# Altium integrated library ON Semi Silicon Controlled Rectifiers (SCRs).IntLib: 163 symbols (part 3 of 4)
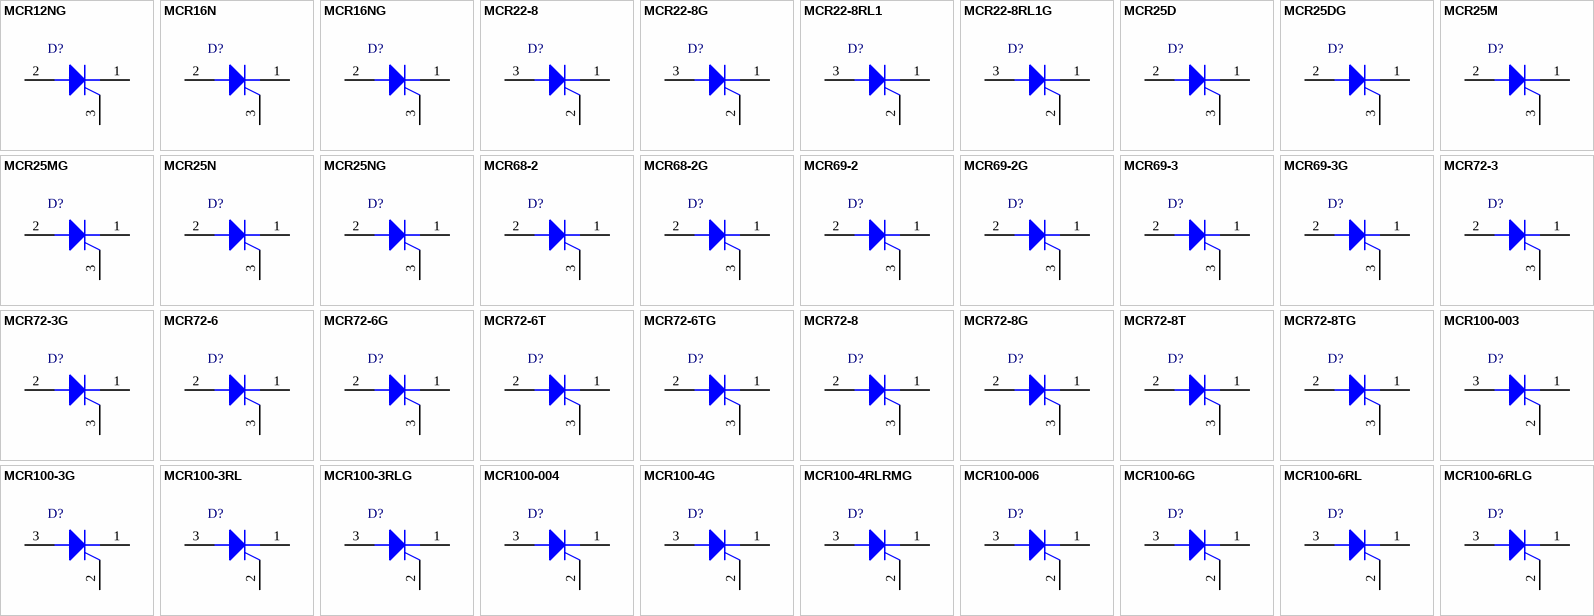
[diagram p6: symbols MCR12NG to MCR100-6RLG]

## MCR25NG
designator D?
Silicon Controlled Rectifier, Reverse Blocking Thyristor, 30 mA, 1 V, 3-Pin TO-220, Pb-Free, Tube; Manufacturer: On Semiconductor; PartNumber: MCR25NG; IGT Max (mA): 30; IT(RMS) Max (A): 25; ITSM Max (A): 300; VGT Max (V): 1; DatasheetVersion: Rev. 5; PackageVersion: Rev. AA; PackageReference: TO-220-3-221A-09_AA; PackageDescription: 3-Pin Flange Mount, Vertical Straight Lead, Body 9.97 x 4.445 mm, Pitch 2.54 mm; Supplier 1: Digi-Key; Supplier Part Number 1: MCR25NGOS-ND; Supplier 2: Newark; Supplier Part Number 2: 26K3705; Supplier 3: Mouser; Supplier Part Number 3: 863-MCR25NG; Packing: Tube; RoHS: Pb-Free; Mounting Technology: Through Hole; ComponentLink1Description: Manufacturer URL; ComponentLink1URL: http://www.onsemi.com/; ComponentLink2Description: Datasheet; ComponentLink2URL: http://www.onsemi.cn/pub_link/Collateral/MCR25-D.PDF; ComponentLink3Description: Package Specification; ComponentLink3URL: http://www.onsemi.com/pub_link/Collateral/MAC16C-D.PDF
footprint ONSC-TO-220-3-221A-09_AA (FM, 3-Leads, Body 10.3x4.85mm, Pitch 2.54mm)
pins: 1 K, 2 A, 3 G

## MCR68-2
designator D?
Silicon Controlled Rectifier, Reverse Blocking Thyristor, 30 mA, 1.5 V, 3-Pin TO-220, Bulk Box; Manufacturer: On Semiconductor; PartNumber: MCR68-2; IGT Max (mA): 30; IT(RMS) Max (A): 12; ITSM Max (A): 100; VGT Max (V): 1.5; DatasheetVersion: Rev. 2; PackageVersion: Rev. O, 07/2008; PackageReference: TO-220-3-221A-07; PackageDescription: 3-Pin Flange Mount, Vertical Straight Lead, Body 9.97 x 4.445 mm, Pitch 2.54 mm; Packing: Bulk Box; Mounting Technology: Through Hole; ComponentLink1Description: Manufacturer URL; ComponentLink1URL: http://www.onsemi.com/; ComponentLink2Description: Datasheet; ComponentLink2URL: http://www.onsemi.cn/pub_link/Collateral/MCR68-D.PDF; ComponentLink3Description: Package Specification; ComponentLink3URL: http://www.onsemi.com/pub_link/Collateral/221A-07.PDF
footprint ONSC-TO-220-3-221A-07 (FM, 3-Leads, Body 10.3x4.85mm, Pitch 2.54mm)
pins: 1 K, 2 A, 3 G

## MCR68-2G
designator D?
Silicon Controlled Rectifier, Reverse Blocking Thyristor, 30 mA, 1.5 V, 3-Pin TO-220, Pb-Free, Bulk Box; Manufacturer: On Semiconductor; PartNumber: MCR68-2G; IGT Max (mA): 30; IT(RMS) Max (A): 12; ITSM Max (A): 100; VGT Max (V): 1.5; DatasheetVersion: Rev. 2; PackageVersion: Rev. O, 07/2008; PackageReference: TO-220-3-221A-07; PackageDescription: 3-Pin Flange Mount, Vertical Straight Lead, Body 9.97 x 4.445 mm, Pitch 2.54 mm; Supplier 1: Digi-Key; Supplier Part Number 1: MCR68-2GOS-ND; Supplier 2: Farnell; Supplier Part Number 2: 1364974; Supplier 3: Newark; Supplier Part Number 3: 71J5364; Supplier 4: Mouser; Supplier Part Number 4: 863-MCR68-2G; Packing: Bulk Box; RoHS: Pb-Free; Mounting Technology: Through Hole; ComponentLink1Description: Manufacturer URL; ComponentLink1URL: http://www.onsemi.com/; ComponentLink2Description: Datasheet; ComponentLink2URL: http://www.onsemi.cn/pub_link/Collateral/MCR68-D.PDF; ComponentLink3Description: Package Specification; ComponentLink3URL: http://www.onsemi.com/pub_link/Collateral/221A-07.PDF
footprint ONSC-TO-220-3-221A-07 (FM, 3-Leads, Body 10.3x4.85mm, Pitch 2.54mm)
pins: 1 K, 2 A, 3 G

## MCR69-2
designator D?
Silicon Controlled Rectifier, Reverse Blocking Thyristor, 30 mA, 1.5 V, 3-Pin TO-220, Bulk Box; Manufacturer: On Semiconductor; PartNumber: MCR69-2; IGT Max (mA): 30; IT(RMS) Max (A): 25; ITSM Max (A): 300; VGT Max (V): 1.5; DatasheetVersion: Rev. 1; PackageVersion: Rev. O, 07/2008; PackageReference: TO-220-3-221A-07; PackageDescription: 3-Pin Flange Mount, Vertical Straight Lead, Body 9.97 x 4.445 mm, Pitch 2.54 mm; Packing: Bulk Box; Mounting Technology: Through Hole; ComponentLink1Description: Manufacturer URL; ComponentLink1URL: http://www.onsemi.com/; ComponentLink2Description: Datasheet; ComponentLink2URL: http://www.onsemi.cn/pub_link/Collateral/MCR69-D.PDF; ComponentLink3Description: Package Specification; ComponentLink3URL: http://www.onsemi.com/pub_link/Collateral/221A-07.PDF
footprint ONSC-TO-220-3-221A-07 (FM, 3-Leads, Body 10.3x4.85mm, Pitch 2.54mm)
pins: 1 K, 2 A, 3 G

## MCR69-2G
designator D?
Silicon Controlled Rectifier, Reverse Blocking Thyristor, 30 mA, 1.5 V, 3-Pin TO-220, Pb-Free, Bulk Box; Manufacturer: On Semiconductor; PartNumber: MCR69-2G; IGT Max (mA): 30; IT(RMS) Max (A): 25; ITSM Max (A): 300; VGT Max (V): 1.5; DatasheetVersion: Rev. 1; PackageVersion: Rev. O, 07/2008; PackageReference: TO-220-3-221A-07; PackageDescription: 3-Pin Flange Mount, Vertical Straight Lead, Body 9.97 x 4.445 mm, Pitch 2.54 mm; Supplier 1: Digi-Key; Supplier Part Number 1: MCR69-2GOS-ND; Supplier 2: Farnell; Supplier Part Number 2: 1150391; Supplier 3: Newark; Supplier Part Number 3: 45J0825; Supplier 4: Mouser; Supplier Part Number 4: 863-MCR69-2G; Packing: Bulk Box; RoHS: Pb-Free; Mounting Technology: Through Hole; ComponentLink1Description: Manufacturer URL; ComponentLink1URL: http://www.onsemi.com/; ComponentLink2Description: Datasheet; ComponentLink2URL: http://www.onsemi.cn/pub_link/Collateral/MCR69-D.PDF; ComponentLink3Description: Package Specification; ComponentLink3URL: http://www.onsemi.com/pub_link/Collateral/221A-07.PDF
footprint ONSC-TO-220-3-221A-07 (FM, 3-Leads, Body 10.3x4.85mm, Pitch 2.54mm)
pins: 1 K, 2 A, 3 G

## MCR69-3
designator D?
Silicon Controlled Rectifier, Reverse Blocking Thyristor, 30 mA, 1.5 V, 3-Pin TO-220, Bulk Box; Manufacturer: On Semiconductor; PartNumber: MCR69-3; IGT Max (mA): 30; IT(RMS) Max (A): 25; ITSM Max (A): 300; VGT Max (V): 1.5; DatasheetVersion: Rev. 1; PackageVersion: Rev. O, 07/2008; PackageReference: TO-220-3-221A-07; PackageDescription: 3-Pin Flange Mount, Vertical Straight Lead, Body 9.97 x 4.445 mm, Pitch 2.54 mm; Packing: Bulk Box; Mounting Technology: Through Hole; ComponentLink1Description: Manufacturer URL; ComponentLink1URL: http://www.onsemi.com/; ComponentLink2Description: Datasheet; ComponentLink2URL: http://www.onsemi.cn/pub_link/Collateral/MCR69-D.PDF; ComponentLink3Description: Package Specification; ComponentLink3URL: http://www.onsemi.com/pub_link/Collateral/221A-07.PDF
footprint ONSC-TO-220-3-221A-07 (FM, 3-Leads, Body 10.3x4.85mm, Pitch 2.54mm)
pins: 1 K, 2 A, 3 G

## MCR69-3G
designator D?
Silicon Controlled Rectifier, Reverse Blocking Thyristor, 30 mA, 1.5 V, 3-Pin TO-220, Pb-Free, Bulk Box; Manufacturer: On Semiconductor; PartNumber: MCR69-3G; IGT Max (mA): 30; IT(RMS) Max (A): 25; ITSM Max (A): 300; VGT Max (V): 1.5; DatasheetVersion: Rev. 1; PackageVersion: Rev. O, 07/2008; PackageReference: TO-220-3-221A-07; PackageDescription: 3-Pin Flange Mount, Vertical Straight Lead, Body 9.97 x 4.445 mm, Pitch 2.54 mm; Supplier 1: Digi-Key; Supplier Part Number 1: MCR69-3GOS-ND; Supplier 2: Farnell; Supplier Part Number 2: 1459082; Supplier 3: Newark; Supplier Part Number 3: 45J0826; Supplier 4: Mouser; Supplier Part Number 4: 863-MCR69-3G; Packing: Bulk Box; RoHS: Pb-Free; Mounting Technology: Through Hole; ComponentLink1Description: Manufacturer URL; ComponentLink1URL: http://www.onsemi.com/; ComponentLink2Description: Datasheet; ComponentLink2URL: http://www.onsemi.cn/pub_link/Collateral/MCR69-D.PDF; ComponentLink3Description: Package Specification; ComponentLink3URL: http://www.onsemi.com/pub_link/Collateral/221A-07.PDF
footprint ONSC-TO-220-3-221A-07 (FM, 3-Leads, Body 10.3x4.85mm, Pitch 2.54mm)
pins: 1 K, 2 A, 3 G

## MCR72-3
designator D?
Sensitive Gate Silicon Controlled Rectifier, Reverse Blocking Thyristor, 0.2 mA, 1.5 V, 3-Pin TO-220, Bulk Box; Manufacturer: On Semiconductor; PartNumber: MCR72-3; IGT Max (mA): 0.2; IT(RMS) Max (A): 8; ITSM Max (A): 100; VGT Max (V): 1.5; DatasheetVersion: Rev. 4; PackageVersion: Rev. O, 07/2008; PackageReference: TO-220-3-221A-07; PackageDescription: 3-Pin Flange Mount, Vertical Straight Lead, Body 9.97 x 4.445 mm, Pitch 2.54 mm; Packing: Bulk Box; Mounting Technology: Through Hole; ComponentLink1Description: Manufacturer URL; ComponentLink1URL: http://www.onsemi.com/; ComponentLink2Description: Datasheet; ComponentLink2URL: http://www.onsemi.cn/pub_link/Collateral/MCR72-D.PDF; ComponentLink3Description: Package Specification; ComponentLink3URL: http://www.onsemi.com/pub_link/Collateral/221A-07.PDF
footprint ONSC-TO-220-3-221A-07 (FM, 3-Leads, Body 10.3x4.85mm, Pitch 2.54mm)
pins: 1 K, 2 A, 3 G

## MCR72-3G
designator D?
Sensitive Gate Silicon Controlled Rectifier, Reverse Blocking Thyristor, 0.2 mA, 1.5 V, 3-Pin TO-220, Pb-Free, Bulk Box; Manufacturer: On Semiconductor; PartNumber: MCR72-3G; IGT Max (mA): 0.2; IT(RMS) Max (A): 8; ITSM Max (A): 100; VGT Max (V): 1.5; DatasheetVersion: Rev. 4; PackageVersion: Rev. O, 07/2008; PackageReference: TO-220-3-221A-07; PackageDescription: 3-Pin Flange Mount, Vertical Straight Lead, Body 9.97 x 4.445 mm, Pitch 2.54 mm; Supplier 1: Digi-Key; Supplier Part Number 1: MCR72-3GOS-ND; Supplier 2: Farnell; Supplier Part Number 2: 1147853; Supplier 3: Newark; Supplier Part Number 3: 71J5366; Supplier 4: Mouser; Supplier Part Number 4: 863-MCR72-3G; Packing: Bulk Box; RoHS: Pb-Free; Mounting Technology: Through Hole; ComponentLink1Description: Manufacturer URL; ComponentLink1URL: http://www.onsemi.com/; ComponentLink2Description: Datasheet; ComponentLink2URL: http://www.onsemi.cn/pub_link/Collateral/MCR72-D.PDF; ComponentLink3Description: Package Specification; ComponentLink3URL: http://www.onsemi.com/pub_link/Collateral/221A-07.PDF
footprint ONSC-TO-220-3-221A-07 (FM, 3-Leads, Body 10.3x4.85mm, Pitch 2.54mm)
pins: 1 K, 2 A, 3 G

## MCR72-6
designator D?
Sensitive Gate Silicon Controlled Rectifier, Reverse Blocking Thyristor, 0.2 mA, 1.5 V, 3-Pin TO-220, Bulk Box; Manufacturer: On Semiconductor; PartNumber: MCR72-6; IGT Max (mA): 0.2; IT(RMS) Max (A): 8; ITSM Max (A): 100; VGT Max (V): 1.5; DatasheetVersion: Rev. 4; PackageVersion: Rev. O, 07/2008; PackageReference: TO-220-3-221A-07; PackageDescription: 3-Pin Flange Mount, Vertical Straight Lead, Body 9.97 x 4.445 mm, Pitch 2.54 mm; Packing: Bulk Box; Mounting Technology: Through Hole; ComponentLink1Description: Manufacturer URL; ComponentLink1URL: http://www.onsemi.com/; ComponentLink2Description: Datasheet; ComponentLink2URL: http://www.onsemi.cn/pub_link/Collateral/MCR72-D.PDF; ComponentLink3Description: Package Specification; ComponentLink3URL: http://www.onsemi.com/pub_link/Collateral/221A-07.PDF
footprint ONSC-TO-220-3-221A-07 (FM, 3-Leads, Body 10.3x4.85mm, Pitch 2.54mm)
pins: 1 K, 2 A, 3 G

## MCR72-6G
designator D?
Sensitive Gate Silicon Controlled Rectifier, Reverse Blocking Thyristor, 0.2 mA, 1.5 V, 3-Pin TO-220, Pb-Free, Bulk Box; Manufacturer: On Semiconductor; PartNumber: MCR72-6G; IGT Max (mA): 0.2; IT(RMS) Max (A): 8; ITSM Max (A): 100; VGT Max (V): 1.5; DatasheetVersion: Rev. 4; PackageVersion: Rev. O, 07/2008; PackageReference: TO-220-3-221A-07; PackageDescription: 3-Pin Flange Mount, Vertical Straight Lead, Body 9.97 x 4.445 mm, Pitch 2.54 mm; Supplier 1: Digi-Key; Supplier Part Number 1: MCR72-6GOS-ND; Supplier 2: Farnell; Supplier Part Number 2: 1136351; Supplier 3: Newark; Supplier Part Number 3: 83H7285; Supplier 4: Mouser; Supplier Part Number 4: 863-MCR72-6G; Packing: Bulk Box; RoHS: Pb-Free; Mounting Technology: Through Hole; ComponentLink1Description: Manufacturer URL; ComponentLink1URL: http://www.onsemi.com/; ComponentLink2Description: Datasheet; ComponentLink2URL: http://www.onsemi.cn/pub_link/Collateral/MCR72-D.PDF; ComponentLink3Description: Package Specification; ComponentLink3URL: http://www.onsemi.com/pub_link/Collateral/221A-07.PDF
footprint ONSC-TO-220-3-221A-07 (FM, 3-Leads, Body 10.3x4.85mm, Pitch 2.54mm)
pins: 1 K, 2 A, 3 G

## MCR72-6T
designator D?
Sensitive Gate Silicon Controlled Rectifier, Reverse Blocking Thyristor, 0.2 mA, 1.5 V, 3-Pin TO-220, Tube; Manufacturer: On Semiconductor; PartNumber: MCR72-6T; IGT Max (mA): 0.2; IT(RMS) Max (A): 8; ITSM Max (A): 100; VGT Max (V): 1.5; DatasheetVersion: Rev. 4; PackageVersion: Rev. O, 07/2008; PackageReference: TO-220-3-221A-07; PackageDescription: 3-Pin Flange Mount, Vertical Straight Lead, Body 9.97 x 4.445 mm, Pitch 2.54 mm; Supplier 1: Digi-Key; Supplier Part Number 1: MCR72-6T-ND; Packing: Tube; Mounting Technology: Through Hole; ComponentLink1Description: Manufacturer URL; ComponentLink1URL: http://www.onsemi.com/; ComponentLink2Description: Datasheet; ComponentLink2URL: http://www.onsemi.cn/pub_link/Collateral/MCR72-D.PDF; ComponentLink3Description: Package Specification; ComponentLink3URL: http://www.onsemi.com/pub_link/Collateral/221A-07.PDF
footprint ONSC-TO-220-3-221A-07 (FM, 3-Leads, Body 10.3x4.85mm, Pitch 2.54mm)
pins: 1 K, 2 A, 3 G

## MCR72-6TG
designator D?
Sensitive Gate Silicon Controlled Rectifier, Reverse Blocking Thyristor, 0.2 mA, 1.5 V, 3-Pin TO-220, Pb-Free, Tube; Manufacturer: On Semiconductor; PartNumber: MCR72-6TG; IGT Max (mA): 0.2; IT(RMS) Max (A): 8; ITSM Max (A): 100; VGT Max (V): 1.5; DatasheetVersion: Rev. 4; PackageVersion: Rev. AF; PackageReference: TO-220-3-221A-09_AF; PackageDescription: 3-Pin Flange Mount, Vertical Straight Lead, Body 9.97 x 4.445 mm, Pitch 2.54 mm; Supplier 1: Digi-Key; Supplier Part Number 1: MCR72-6TGOS-ND; Supplier 2: Farnell; Supplier Part Number 2: 1706027; Supplier 3: Newark; Supplier Part Number 3: 83H7286; Supplier 4: Mouser; Supplier Part Number 4: 863-MCR72-6TG; Packing: Tube; RoHS: Pb-Free; Mounting Technology: Through Hole; ComponentLink1Description: Manufacturer URL; ComponentLink1URL: http://www.onsemi.com/; ComponentLink2Description: Datasheet; ComponentLink2URL: http://www.onsemi.cn/pub_link/Collateral/MCR72-D.PDF; ComponentLink3Description: Package Specification; ComponentLink3URL: http://www.onsemi.cn/pub_link/Collateral/MCR8S-D.PDF
footprint ONSC-TO-220-3-221A-09_AF (FM, 3-Leads, Body 10.3x4.85mm, Pitch 2.54mm)
pins: 1 K, 2 A, 3 G

## MCR72-8
designator D?
Sensitive Gate Silicon Controlled Rectifier, Reverse Blocking Thyristor, 0.2 mA, 1.5 V, 3-Pin TO-220, Bulk Box; Manufacturer: On Semiconductor; PartNumber: MCR72-8; IGT Max (mA): 0.2; IT(RMS) Max (A): 8; ITSM Max (A): 100; VGT Max (V): 1.5; DatasheetVersion: Rev. 4; PackageVersion: Rev. O, 07/2008; PackageReference: TO-220-3-221A-07; PackageDescription: 3-Pin Flange Mount, Vertical Straight Lead, Body 9.97 x 4.445 mm, Pitch 2.54 mm; Packing: Bulk Box; Mounting Technology: Through Hole; ComponentLink1Description: Manufacturer URL; ComponentLink1URL: http://www.onsemi.com/; ComponentLink2Description: Datasheet; ComponentLink2URL: http://www.onsemi.cn/pub_link/Collateral/MCR72-D.PDF; ComponentLink3Description: Package Specification; ComponentLink3URL: http://www.onsemi.com/pub_link/Collateral/221A-07.PDF
footprint ONSC-TO-220-3-221A-07 (FM, 3-Leads, Body 10.3x4.85mm, Pitch 2.54mm)
pins: 1 K, 2 A, 3 G

## MCR72-8G
designator D?
Sensitive Gate Silicon Controlled Rectifier, Reverse Blocking Thyristor, 0.2 mA, 1.5 V, 3-Pin TO-220, Pb-Free, Bulk Box; Manufacturer: On Semiconductor; PartNumber: MCR72-8G; IGT Max (mA): 0.2; IT(RMS) Max (A): 8; ITSM Max (A): 100; VGT Max (V): 1.5; DatasheetVersion: Rev. 4; PackageVersion: Rev. O, 07/2008; PackageReference: TO-220-3-221A-07; PackageDescription: 3-Pin Flange Mount, Vertical Straight Lead, Body 9.97 x 4.445 mm, Pitch 2.54 mm; Supplier 1: Digi-Key; Supplier Part Number 1: MCR72-8GOS-ND; Supplier 2: Farnell; Supplier Part Number 2: 1364975; Supplier 3: Newark; Supplier Part Number 3: 71J5367; Supplier 4: Mouser; Supplier Part Number 4: 863-MCR72-8G; Packing: Bulk Box; RoHS: Pb-Free; Mounting Technology: Through Hole; ComponentLink1Description: Manufacturer URL; ComponentLink1URL: http://www.onsemi.com/; ComponentLink2Description: Datasheet; ComponentLink2URL: http://www.onsemi.cn/pub_link/Collateral/MCR72-D.PDF; ComponentLink3Description: Package Specification; ComponentLink3URL: http://www.onsemi.com/pub_link/Collateral/221A-07.PDF
footprint ONSC-TO-220-3-221A-07 (FM, 3-Leads, Body 10.3x4.85mm, Pitch 2.54mm)
pins: 1 K, 2 A, 3 G

## MCR72-8T
designator D?
Sensitive Gate Silicon Controlled Rectifier, Reverse Blocking Thyristor, 0.2 mA, 1.5 V, 3-Pin TO-220, Tube; Manufacturer: On Semiconductor; PartNumber: MCR72-8T; IGT Max (mA): 0.2; IT(RMS) Max (A): 8; ITSM Max (A): 100; VGT Max (V): 1.5; DatasheetVersion: Rev. 4; PackageVersion: Rev. O, 07/2008; PackageReference: TO-220-3-221A-07; PackageDescription: 3-Pin Flange Mount, Vertical Straight Lead, Body 9.97 x 4.445 mm, Pitch 2.54 mm; Packing: Tube; Mounting Technology: Through Hole; ComponentLink1Description: Manufacturer URL; ComponentLink1URL: http://www.onsemi.com/; ComponentLink2Description: Datasheet; ComponentLink2URL: http://www.onsemi.cn/pub_link/Collateral/MCR72-D.PDF; ComponentLink3Description: Package Specification; ComponentLink3URL: http://www.onsemi.com/pub_link/Collateral/221A-07.PDF
footprint ONSC-TO-220-3-221A-07 (FM, 3-Leads, Body 10.3x4.85mm, Pitch 2.54mm)
pins: 1 K, 2 A, 3 G

## MCR72-8TG
designator D?
Sensitive Gate Silicon Controlled Rectifier, Reverse Blocking Thyristor, 0.2 mA, 1.5 V, 3-Pin TO-220, Pb-Free, Tube; Manufacturer: On Semiconductor; PartNumber: MCR72-8TG; IGT Max (mA): 0.2; IT(RMS) Max (A): 8; ITSM Max (A): 100; VGT Max (V): 1.5; DatasheetVersion: Rev. 4; PackageVersion: Rev. O, 07/2008; PackageReference: TO-220-3-221A-07; PackageDescription: 3-Pin Flange Mount, Vertical Straight Lead, Body 9.97 x 4.445 mm, Pitch 2.54 mm; Supplier 1: Digi-Key; Supplier Part Number 1: MCR72-8TGOS-ND; Supplier 2: Farnell; Supplier Part Number 2: 1705796; Supplier 3: Newark; Supplier Part Number 3: 26K3708; Supplier 4: Mouser; Supplier Part Number 4: 863-MCR72-8TG; Packing: Tube; RoHS: Pb-Free; Mounting Technology: Through Hole; ComponentLink1Description: Manufacturer URL; ComponentLink1URL: http://www.onsemi.com/; ComponentLink2Description: Datasheet; ComponentLink2URL: http://www.onsemi.cn/pub_link/Collateral/MCR72-D.PDF; ComponentLink3Description: Package Specification; ComponentLink3URL: http://www.onsemi.com/pub_link/Collateral/221A-07.PDF
footprint ONSC-TO-220-3-221A-07 (FM, 3-Leads, Body 10.3x4.85mm, Pitch 2.54mm)
pins: 1 K, 2 A, 3 G

## MCR100-003
designator D?
Sensitive Gate Silicon Controlled Rectifier, Reverse Blocking Thyristor, 0.2 mA, 3-Pin TO-92, Bulk Box; Manufacturer: On Semiconductor; PartNumber: MCR100-003; IGT Max (mA): 0.2; IT(RMS) Max (A): 0.8; ITSM Max (A): 10; DatasheetVersion: Rev. 10; PackageVersion: Rev. AM; PackageReference: TO-92-3-29-11_AM_SL; PackageDescription: 3-Pin Transistor Outline, Body 4.825 x 3.685 mm, Pitch 1.27 mm; Supplier 1: Digi-Key; Supplier Part Number 1: MCR100-003-ND; Supplier 2: Mouser; Supplier Part Number 2: 863-MCR100-003; Packing: Bulk Box; Mounting Technology: Through Hole; ComponentLink1Description: Manufacturer URL; ComponentLink1URL: http://www.onsemi.com/; ComponentLink2Description: Datasheet; ComponentLink2URL: http://www.onsemi.cn/pub_link/Collateral/MCR100-D.PDF; ComponentLink3Description: Package Specification; ComponentLink3URL: http://www.onsemi.cn/pub_link/Collateral/2N6426-D.PDF
footprint ONSC-TO-92-3-29-11 (TO, 3-Leads, Body Dia 4.7mm, Pitch 1.27mm)
pins: 1 K, 2 G, 3 A

## MCR100-3G
designator D?
Sensitive Gate Silicon Controlled Rectifier, Reverse Blocking Thyristor, 0.2 mA, 3-Pin TO-92, Pb-Free, Bulk Box; Manufacturer: On Semiconductor; PartNumber: MCR100-3G; IGT Max (mA): 0.2; IT(RMS) Max (A): 0.8; ITSM Max (A): 10; DatasheetVersion: Rev. 10; PackageVersion: Rev. AM; PackageReference: TO-92-3-29-11_AM_SL; PackageDescription: 3-Pin Transistor Outline, Body 4.825 x 3.685 mm, Pitch 1.27 mm; Supplier 1: Digi-Key; Supplier Part Number 1: MCR100-3GOS-ND; Supplier 2: Farnell; Supplier Part Number 2: 1364043; Supplier 3: Newark; Supplier Part Number 3: 26K3692; Supplier 4: Mouser; Supplier Part Number 4: 863-MCR100-3G; Packing: Bulk Box; RoHS: Pb-Free; Mounting Technology: Through Hole; ComponentLink1Description: Manufacturer URL; ComponentLink1URL: http://www.onsemi.com/; ComponentLink2Description: Datasheet; ComponentLink2URL: http://www.onsemi.cn/pub_link/Collateral/MCR100-D.PDF; ComponentLink3Description: Package Specification; ComponentLink3URL: http://www.onsemi.cn/pub_link/Collateral/2N6426-D.PDF
footprint ONSC-TO-92-3-29-11 (TO, 3-Leads, Body Dia 4.7mm, Pitch 1.27mm)
pins: 1 K, 2 G, 3 A

## MCR100-3RL
designator D?
Sensitive Gate Silicon Controlled Rectifier, Reverse Blocking Thyristor, 0.2 mA, 3-Pin TO-92, Tape and Reel; Manufacturer: On Semiconductor; PartNumber: MCR100-3RL; IGT Max (mA): 0.2; IT(RMS) Max (A): 0.8; ITSM Max (A): 10; DatasheetVersion: Rev. 10; PackageVersion: Rev. AM; PackageReference: TO-92-3-29-11_AM_SL; PackageDescription: 3-Pin Transistor Outline, Body 4.825 x 3.685 mm, Pitch 1.27 mm; Supplier 1: Digi-Key; Supplier Part Number 1: MCR100-3RL-ND; Packing: Tape and Reel; Mounting Technology: Through Hole; ComponentLink1Description: Manufacturer URL; ComponentLink1URL: http://www.onsemi.com/; ComponentLink2Description: Datasheet; ComponentLink2URL: http://www.onsemi.cn/pub_link/Collateral/MCR100-D.PDF; ComponentLink3Description: Package Specification; ComponentLink3URL: http://www.onsemi.cn/pub_link/Collateral/2N6426-D.PDF
footprint ONSC-TO-92-3-29-11 (TO, 3-Leads, Body Dia 4.7mm, Pitch 1.27mm)
pins: 1 K, 2 G, 3 A

## MCR100-3RLG
designator D?
Sensitive Gate Silicon Controlled Rectifier, Reverse Blocking Thyristor, 0.2 mA, 3-Pin TO-92, Pb-Free, Tape and Reel; Manufacturer: On Semiconductor; PartNumber: MCR100-3RLG; IGT Max (mA): 0.2; IT(RMS) Max (A): 0.8; ITSM Max (A): 10; DatasheetVersion: Rev. 10; PackageVersion: Rev. AM; PackageReference: TO-92-3-29-11_AM_SL; PackageDescription: 3-Pin Transistor Outline, Body 4.825 x 3.685 mm, Pitch 1.27 mm; Supplier 1: Digi-Key; Supplier Part Number 1: MCR100-3RLGOSTR-ND; Supplier 2: Digi-Key; Supplier Part Number 2: MCR100-3RLGOSCT-ND; Supplier 3: Newark; Supplier Part Number 3: 85W2288; Supplier 4: Newark; Supplier Part Number 4: 98H0608; Supplier 5: Mouser; Supplier Part Number 5: 863-MCR100-3RLG; Packing: Tape and Reel; RoHS: Pb-Free; Mounting Technology: Through Hole; ComponentLink1Description: Manufacturer URL; ComponentLink1URL: http://www.onsemi.com/; ComponentLink2Description: Datasheet; ComponentLink2URL: http://www.onsemi.cn/pub_link/Collateral/MCR100-D.PDF; ComponentLink3Description: Package Specification; ComponentLink3URL: http://www.onsemi.cn/pub_link/Collateral/2N6426-D.PDF
footprint ONSC-TO-92-3-29-11 (TO, 3-Leads, Body Dia 4.7mm, Pitch 1.27mm)
pins: 1 K, 2 G, 3 A

## MCR100-004
designator D?
Sensitive Gate Silicon Controlled Rectifier, Reverse Blocking Thyristor, 0.2 mA, 3-Pin TO-92, Bulk Box; Manufacturer: On Semiconductor; PartNumber: MCR100-004; IGT Max (mA): 0.2; IT(RMS) Max (A): 0.8; ITSM Max (A): 10; DatasheetVersion: Rev. 10; PackageVersion: Rev. AM; PackageReference: TO-92-3-29-11_AM_SL; PackageDescription: 3-Pin Transistor Outline, Body 4.825 x 3.685 mm, Pitch 1.27 mm; Supplier 1: Digi-Key; Supplier Part Number 1: MCR100-004-ND; Supplier 2: Mouser; Supplier Part Number 2: 863-MCR100-004; Packing: Bulk Box; Mounting Technology: Through Hole; ComponentLink1Description: Manufacturer URL; ComponentLink1URL: http://www.onsemi.com/; ComponentLink2Description: Datasheet; ComponentLink2URL: http://www.onsemi.cn/pub_link/Collateral/MCR100-D.PDF; ComponentLink3Description: Package Specification; ComponentLink3URL: http://www.onsemi.cn/pub_link/Collateral/2N6426-D.PDF
footprint ONSC-TO-92-3-29-11 (TO, 3-Leads, Body Dia 4.7mm, Pitch 1.27mm)
pins: 1 K, 2 G, 3 A

## MCR100-4G
designator D?
Sensitive Gate Silicon Controlled Rectifier, Reverse Blocking Thyristor, 0.2 mA, 3-Pin TO-92, Pb-Free, Bulk Box; Manufacturer: On Semiconductor; PartNumber: MCR100-4G; IGT Max (mA): 0.2; IT(RMS) Max (A): 0.8; ITSM Max (A): 10; DatasheetVersion: Rev. 10; PackageVersion: Rev. AM; PackageReference: TO-92-3-29-11_AM_SL; PackageDescription: 3-Pin Transistor Outline, Body 4.825 x 3.685 mm, Pitch 1.27 mm; Supplier 1: Digi-Key; Supplier Part Number 1: MCR100-4GOS-ND; Supplier 2: Farnell; Supplier Part Number 2: 1364537; Supplier 3: Newark; Supplier Part Number 3: 42K0024; Supplier 4: Mouser; Supplier Part Number 4: 863-MCR100-4G; Packing: Bulk Box; RoHS: Pb-Free; Mounting Technology: Through Hole; ComponentLink1Description: Manufacturer URL; ComponentLink1URL: http://www.onsemi.com/; ComponentLink2Description: Datasheet; ComponentLink2URL: http://www.onsemi.cn/pub_link/Collateral/MCR100-D.PDF; ComponentLink3Description: Package Specification; ComponentLink3URL: http://www.onsemi.cn/pub_link/Collateral/2N6426-D.PDF
footprint ONSC-TO-92-3-29-11 (TO, 3-Leads, Body Dia 4.7mm, Pitch 1.27mm)
pins: 1 K, 2 G, 3 A

## MCR100-4RLRMG
designator D?
Sensitive Gate Silicon Controlled Rectifier, Reverse Blocking Thyristor, 0.2 mA, 3-Pin TO-92, Pb-Free, Fan-Fold; Manufacturer: On Semiconductor; PartNumber: MCR100-4RLRMG; IGT Max (mA): 0.2; IT(RMS) Max (A): 0.8; ITSM Max (A): 10; DatasheetVersion: Rev. 10; PackageVersion: Rev. AM; PackageReference: TO-92-3-29-11_AM_SL; PackageDescription: 3-Pin Transistor Outline, Body 4.825 x 3.685 mm, Pitch 1.27 mm; Supplier 1: Digi-Key; Supplier Part Number 1: MCR100-4RLRMG-ND; Supplier 2: Newark; Supplier Part Number 2: 50M2087; Supplier 3: Mouser; Supplier Part Number 3: 863-MCR100-4RLRMG; Packing: Fan-Fold; RoHS: Pb-Free; Mounting Technology: Through Hole; ComponentLink1Description: Manufacturer URL; ComponentLink1URL: http://www.onsemi.com/; ComponentLink2Description: Datasheet; ComponentLink2URL: http://www.onsemi.cn/pub_link/Collateral/MCR100-D.PDF; ComponentLink3Description: Package Specification; ComponentLink3URL: http://www.onsemi.cn/pub_link/Collateral/2N6426-D.PDF
footprint ONSC-TO-92-3-29-11 (TO, 3-Leads, Body Dia 4.7mm, Pitch 1.27mm)
pins: 1 K, 2 G, 3 A

## MCR100-006
designator D?
Sensitive Gate Silicon Controlled Rectifier, Reverse Blocking Thyristor, 0.2 mA, 3-Pin TO-92, Bulk Box; Manufacturer: On Semiconductor; PartNumber: MCR100-006; IGT Max (mA): 0.2; IT(RMS) Max (A): 0.8; ITSM Max (A): 10; DatasheetVersion: Rev. 10; PackageVersion: Rev. AM; PackageReference: TO-92-3-29-11_AM_SL; PackageDescription: 3-Pin Transistor Outline, Body 4.825 x 3.685 mm, Pitch 1.27 mm; Supplier 1: Mouser; Supplier Part Number 1: 863-MCR100-006; Packing: Bulk Box; Mounting Technology: Through Hole; ComponentLink1Description: Manufacturer URL; ComponentLink1URL: http://www.onsemi.com/; ComponentLink2Description: Datasheet; ComponentLink2URL: http://www.onsemi.cn/pub_link/Collateral/MCR100-D.PDF; ComponentLink3Description: Package Specification; ComponentLink3URL: http://www.onsemi.cn/pub_link/Collateral/2N6426-D.PDF
footprint ONSC-TO-92-3-29-11 (TO, 3-Leads, Body Dia 4.7mm, Pitch 1.27mm)
pins: 1 K, 2 G, 3 A

## MCR100-6G
designator D?
Sensitive Gate Silicon Controlled Rectifier, Reverse Blocking Thyristor, 0.2 mA, 3-Pin TO-92, Pb-Free, Bulk Box; Manufacturer: On Semiconductor; PartNumber: MCR100-6G; IGT Max (mA): 0.2; IT(RMS) Max (A): 0.8; ITSM Max (A): 10; DatasheetVersion: Rev. 10; PackageVersion: Rev. AM; PackageReference: TO-92-3-29-11_AM_SL; PackageDescription: 3-Pin Transistor Outline, Body 4.825 x 3.685 mm, Pitch 1.27 mm; Supplier 1: Digi-Key; Supplier Part Number 1: MCR100-6GOS-ND; Supplier 2: Farnell; Supplier Part Number 2: 9557270; Supplier 3: Newark; Supplier Part Number 3: 45J0815; Supplier 4: Mouser; Supplier Part Number 4: 863-MCR100-6G; Packing: Bulk Box; RoHS: Pb-Free; Mounting Technology: Through Hole; ComponentLink1Description: Manufacturer URL; ComponentLink1URL: http://www.onsemi.com/; ComponentLink2Description: Datasheet; ComponentLink2URL: http://www.onsemi.cn/pub_link/Collateral/MCR100-D.PDF; ComponentLink3Description: Package Specification; ComponentLink3URL: http://www.onsemi.cn/pub_link/Collateral/2N6426-D.PDF
footprint ONSC-TO-92-3-29-11 (TO, 3-Leads, Body Dia 4.7mm, Pitch 1.27mm)
pins: 1 K, 2 G, 3 A

## MCR100-6RL
designator D?
Sensitive Gate Silicon Controlled Rectifier, Reverse Blocking Thyristor, 0.2 mA, 3-Pin TO-92, Tape and Reel; Manufacturer: On Semiconductor; PartNumber: MCR100-6RL; IGT Max (mA): 0.2; IT(RMS) Max (A): 0.8; ITSM Max (A): 10; DatasheetVersion: Rev. 10; PackageVersion: Rev. AM; PackageReference: TO-92-3-29-11_AM_SL; PackageDescription: 3-Pin Transistor Outline, Body 4.825 x 3.685 mm, Pitch 1.27 mm; Supplier 1: Digi-Key; Supplier Part Number 1: MCR100-6RLOSCT-ND; Packing: Tape and Reel; Mounting Technology: Through Hole; ComponentLink1Description: Manufacturer URL; ComponentLink1URL: http://www.onsemi.com/; ComponentLink2Description: Datasheet; ComponentLink2URL: http://www.onsemi.cn/pub_link/Collateral/MCR100-D.PDF; ComponentLink3Description: Package Specification; ComponentLink3URL: http://www.onsemi.cn/pub_link/Collateral/2N6426-D.PDF
footprint ONSC-TO-92-3-29-11 (TO, 3-Leads, Body Dia 4.7mm, Pitch 1.27mm)
pins: 1 K, 2 G, 3 A

## MCR100-6RLG
designator D?
Sensitive Gate Silicon Controlled Rectifier, Reverse Blocking Thyristor, 0.2 mA, 3-Pin TO-92, Pb-Free, Tape and Reel; Manufacturer: On Semiconductor; PartNumber: MCR100-6RLG; IGT Max (mA): 0.2; IT(RMS) Max (A): 0.8; ITSM Max (A): 10; DatasheetVersion: Rev. 10; PackageVersion: Rev. AM; PackageReference: TO-92-3-29-11_AM_SL; PackageDescription: 3-Pin Transistor Outline, Body 4.825 x 3.685 mm, Pitch 1.27 mm; Supplier 1: Digi-Key; Supplier Part Number 1: MCR100-6RLGOSTR-ND; Supplier 2: Digi-Key; Supplier Part Number 2: MCR100-6RLGOSCT-ND; Supplier 3: Newark; Supplier Part Number 3: 88H4691; Supplier 4: Mouser; Supplier Part Number 4: 863-MCR100-6RLG; Packing: Tape and Reel; RoHS: Pb-Free; Mounting Technology: Through Hole; ComponentLink1Description: Manufacturer URL; ComponentLink1URL: http://www.onsemi.com/; ComponentLink2Description: Datasheet; ComponentLink2URL: http://www.onsemi.cn/pub_link/Collateral/MCR100-D.PDF; ComponentLink3Description: Package Specification; ComponentLink3URL: http://www.onsemi.cn/pub_link/Collateral/2N6426-D.PDF
footprint ONSC-TO-92-3-29-11 (TO, 3-Leads, Body Dia 4.7mm, Pitch 1.27mm)
pins: 1 K, 2 G, 3 A

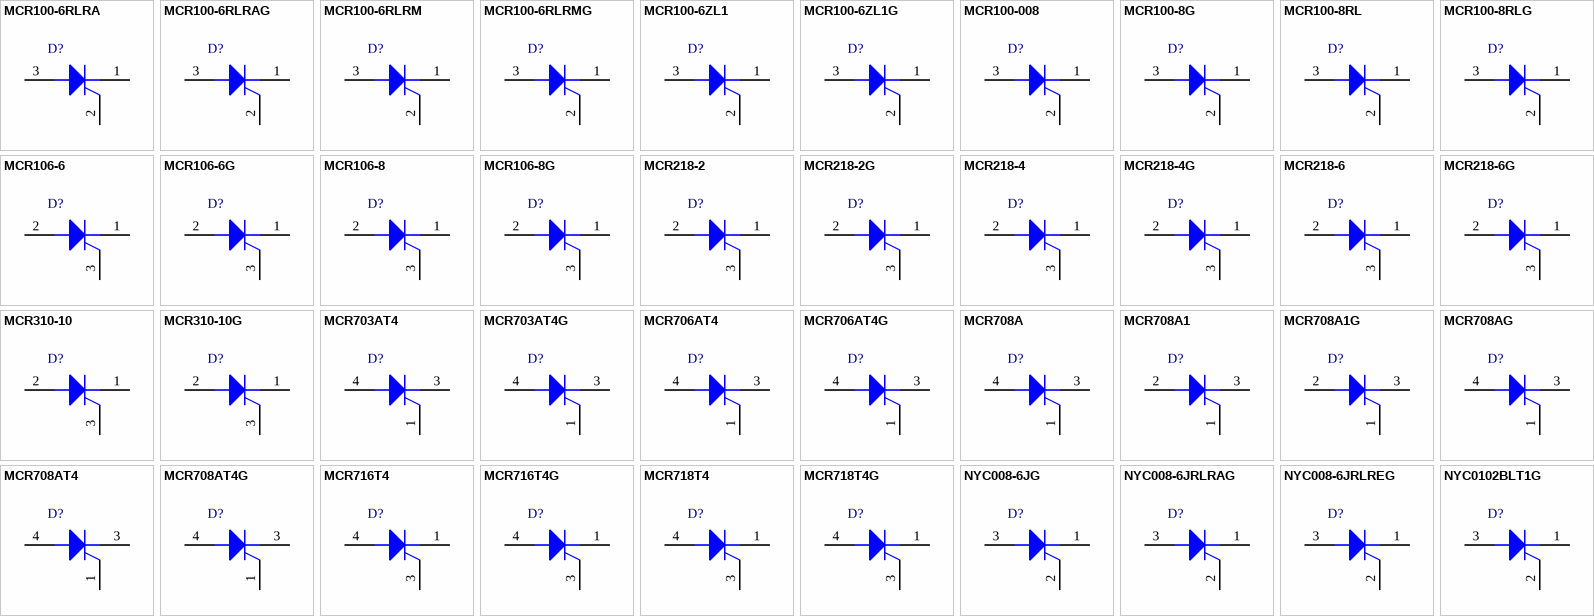
[diagram p3: symbols MCR100-6RLRA to NYC0102BLT1G]

## MCR100-6RLRA
designator D?
Sensitive Gate Silicon Controlled Rectifier, Reverse Blocking Thyristor, 0.2 mA, 3-Pin TO-92, Tape and Reel; Manufacturer: On Semiconductor; PartNumber: MCR100-6RLRA; IGT Max (mA): 0.2; IT(RMS) Max (A): 0.8; ITSM Max (A): 10; DatasheetVersion: Rev. 10; PackageVersion: Rev. AM; PackageReference: TO-92-3-29-11_AM_SL; PackageDescription: 3-Pin Transistor Outline, Body 4.825 x 3.685 mm, Pitch 1.27 mm; Supplier 1: Digi-Key; Supplier Part Number 1: MCR100-6RLRA-ND; Packing: Tape and Reel; Mounting Technology: Through Hole; ComponentLink1Description: Manufacturer URL; ComponentLink1URL: http://www.onsemi.com/; ComponentLink2Description: Datasheet; ComponentLink2URL: http://www.onsemi.cn/pub_link/Collateral/MCR100-D.PDF; ComponentLink3Description: Package Specification; ComponentLink3URL: http://www.onsemi.cn/pub_link/Collateral/2N6426-D.PDF
footprint ONSC-TO-92-3-29-11 (TO, 3-Leads, Body Dia 4.7mm, Pitch 1.27mm)
pins: 1 K, 2 G, 3 A

## MCR100-6RLRAG
designator D?
Sensitive Gate Silicon Controlled Rectifier, Reverse Blocking Thyristor, 0.2 mA, 3-Pin TO-92, Pb-Free, Tape and Reel; Manufacturer: On Semiconductor; PartNumber: MCR100-6RLRAG; IGT Max (mA): 0.2; IT(RMS) Max (A): 0.8; ITSM Max (A): 10; DatasheetVersion: Rev. 10; PackageVersion: Rev. AM; PackageReference: TO-92-3-29-11_AM_SL; PackageDescription: 3-Pin Transistor Outline, Body 4.825 x 3.685 mm, Pitch 1.27 mm; Supplier 1: Digi-Key; Supplier Part Number 1: MCR100-6RLRAGOSTR-ND; Supplier 2: Digi-Key; Supplier Part Number 2: MCR100-6RLRAGOSCT-ND; Supplier 3: Newark; Supplier Part Number 3: 45J0816; Supplier 4: Mouser; Supplier Part Number 4: 863-MCR100-6RLRAG; Packing: Tape and Reel; RoHS: Pb-Free; Mounting Technology: Through Hole; ComponentLink1Description: Manufacturer URL; ComponentLink1URL: http://www.onsemi.com/; ComponentLink2Description: Datasheet; ComponentLink2URL: http://www.onsemi.cn/pub_link/Collateral/MCR100-D.PDF; ComponentLink3Description: Package Specification; ComponentLink3URL: http://www.onsemi.cn/pub_link/Collateral/2N6426-D.PDF
footprint ONSC-TO-92-3-29-11 (TO, 3-Leads, Body Dia 4.7mm, Pitch 1.27mm)
pins: 1 K, 2 G, 3 A

## MCR100-6RLRM
designator D?
Sensitive Gate Silicon Controlled Rectifier, Reverse Blocking Thyristor, 0.2 mA, 3-Pin TO-92, Fan-Fold; Manufacturer: On Semiconductor; PartNumber: MCR100-6RLRM; IGT Max (mA): 0.2; IT(RMS) Max (A): 0.8; ITSM Max (A): 10; DatasheetVersion: Rev. 10; PackageVersion: Rev. AM; PackageReference: TO-92-3-29-11_AM_SL; PackageDescription: 3-Pin Transistor Outline, Body 4.825 x 3.685 mm, Pitch 1.27 mm; Packing: Fan-Fold; Mounting Technology: Through Hole; ComponentLink1Description: Manufacturer URL; ComponentLink1URL: http://www.onsemi.com/; ComponentLink2Description: Datasheet; ComponentLink2URL: http://www.onsemi.cn/pub_link/Collateral/MCR100-D.PDF; ComponentLink3Description: Package Specification; ComponentLink3URL: http://www.onsemi.cn/pub_link/Collateral/2N6426-D.PDF
footprint ONSC-TO-92-3-29-11 (TO, 3-Leads, Body Dia 4.7mm, Pitch 1.27mm)
pins: 1 K, 2 G, 3 A

## MCR100-6RLRMG
designator D?
Sensitive Gate Silicon Controlled Rectifier, Reverse Blocking Thyristor, 0.2 mA, 3-Pin TO-92, Pb-Free, Fan-Fold; Manufacturer: On Semiconductor; PartNumber: MCR100-6RLRMG; IGT Max (mA): 0.2; IT(RMS) Max (A): 0.8; ITSM Max (A): 10; DatasheetVersion: Rev. 10; PackageVersion: Rev. AM; PackageReference: TO-92-3-29-11_AM_SL; PackageDescription: 3-Pin Transistor Outline, Body 4.825 x 3.685 mm, Pitch 1.27 mm; Supplier 1: Digi-Key; Supplier Part Number 1: MCR100-6RLRMGOSTB-ND; Supplier 2: Digi-Key; Supplier Part Number 2: MCR100-6RLRMGOSCT-ND; Supplier 3: Newark; Supplier Part Number 3: 26K3693; Supplier 4: Mouser; Supplier Part Number 4: 863-MCR100-6RLRMG; Packing: Fan-Fold; RoHS: Pb-Free; Mounting Technology: Through Hole; ComponentLink1Description: Manufacturer URL; ComponentLink1URL: http://www.onsemi.com/; ComponentLink2Description: Datasheet; ComponentLink2URL: http://www.onsemi.cn/pub_link/Collateral/MCR100-D.PDF; ComponentLink3Description: Package Specification; ComponentLink3URL: http://www.onsemi.cn/pub_link/Collateral/2N6426-D.PDF
footprint ONSC-TO-92-3-29-11 (TO, 3-Leads, Body Dia 4.7mm, Pitch 1.27mm)
pins: 1 K, 2 G, 3 A

## MCR100-6ZL1
designator D?
Sensitive Gate Silicon Controlled Rectifier, Reverse Blocking Thyristor, 0.2 mA, 3-Pin TO-92, Fan-Fold; Manufacturer: On Semiconductor; PartNumber: MCR100-6ZL1; IGT Max (mA): 0.2; IT(RMS) Max (A): 0.8; ITSM Max (A): 10; DatasheetVersion: Rev. 10; PackageVersion: Rev. AM; PackageReference: TO-92-3-29-11_AM_SL; PackageDescription: 3-Pin Transistor Outline, Body 4.825 x 3.685 mm, Pitch 1.27 mm; Packing: Fan-Fold; Mounting Technology: Through Hole; ComponentLink1Description: Manufacturer URL; ComponentLink1URL: http://www.onsemi.com/; ComponentLink2Description: Datasheet; ComponentLink2URL: http://www.onsemi.cn/pub_link/Collateral/MCR100-D.PDF; ComponentLink3Description: Package Specification; ComponentLink3URL: http://www.onsemi.cn/pub_link/Collateral/2N6426-D.PDF
footprint ONSC-TO-92-3-29-11 (TO, 3-Leads, Body Dia 4.7mm, Pitch 1.27mm)
pins: 1 K, 2 G, 3 A

## MCR100-6ZL1G
designator D?
Sensitive Gate Silicon Controlled Rectifier, Reverse Blocking Thyristor, 0.2 mA, 3-Pin TO-92, Pb-Free, Fan-Fold; Manufacturer: On Semiconductor; PartNumber: MCR100-6ZL1G; IGT Max (mA): 0.2; IT(RMS) Max (A): 0.8; ITSM Max (A): 10; DatasheetVersion: Rev. 10; PackageVersion: Rev. AM; PackageReference: TO-92-3-29-11_AM_SL; PackageDescription: 3-Pin Transistor Outline, Body 4.825 x 3.685 mm, Pitch 1.27 mm; Supplier 1: Digi-Key; Supplier Part Number 1: MCR100-6ZL1GOSTB-ND; Supplier 2: Digi-Key; Supplier Part Number 2: MCR100-6ZL1GOSCT-ND; Supplier 3: Newark; Supplier Part Number 3: 85W2289; Supplier 4: Mouser; Supplier Part Number 4: 863-MCR100-6ZL1G; Packing: Fan-Fold; RoHS: Pb-Free; Mounting Technology: Through Hole; ComponentLink1Description: Manufacturer URL; ComponentLink1URL: http://www.onsemi.com/; ComponentLink2Description: Datasheet; ComponentLink2URL: http://www.onsemi.cn/pub_link/Collateral/MCR100-D.PDF; ComponentLink3Description: Package Specification; ComponentLink3URL: http://www.onsemi.cn/pub_link/Collateral/2N6426-D.PDF
footprint ONSC-TO-92-3-29-11 (TO, 3-Leads, Body Dia 4.7mm, Pitch 1.27mm)
pins: 1 K, 2 G, 3 A

## MCR100-008
designator D?
Sensitive Gate Silicon Controlled Rectifier, Reverse Blocking Thyristor, 0.2 mA, 3-Pin TO-92, Bulk Box; Manufacturer: On Semiconductor; PartNumber: MCR100-008; IGT Max (mA): 0.2; IT(RMS) Max (A): 0.8; ITSM Max (A): 10; DatasheetVersion: Rev. 10; PackageVersion: Rev. AM; PackageReference: TO-92-3-29-11_AM_SL; PackageDescription: 3-Pin Transistor Outline, Body 4.825 x 3.685 mm, Pitch 1.27 mm; Supplier 1: Mouser; Supplier Part Number 1: 863-MCR100-008; Packing: Bulk Box; Mounting Technology: Through Hole; ComponentLink1Description: Manufacturer URL; ComponentLink1URL: http://www.onsemi.com/; ComponentLink2Description: Datasheet; ComponentLink2URL: http://www.onsemi.cn/pub_link/Collateral/MCR100-D.PDF; ComponentLink3Description: Package Specification; ComponentLink3URL: http://www.onsemi.cn/pub_link/Collateral/2N6426-D.PDF
footprint ONSC-TO-92-3-29-11 (TO, 3-Leads, Body Dia 4.7mm, Pitch 1.27mm)
pins: 1 K, 2 G, 3 A

## MCR100-8G
designator D?
Sensitive Gate Silicon Controlled Rectifier, Reverse Blocking Thyristor, 0.2 mA, 3-Pin TO-92, Pb-Free, Bulk Box; Manufacturer: On Semiconductor; PartNumber: MCR100-8G; IGT Max (mA): 0.2; IT(RMS) Max (A): 0.8; ITSM Max (A): 10; DatasheetVersion: Rev. 10; PackageVersion: Rev. AM; PackageReference: TO-92-3-29-11_AM_SL; PackageDescription: 3-Pin Transistor Outline, Body 4.825 x 3.685 mm, Pitch 1.27 mm; Supplier 1: Digi-Key; Supplier Part Number 1: MCR100-8GOS-ND; Supplier 2: Farnell; Supplier Part Number 2: 9557288; Supplier 3: Newark; Supplier Part Number 3: 26K3695; Supplier 4: Mouser; Supplier Part Number 4: 863-MCR100-8G; Packing: Bulk Box; RoHS: Pb-Free; Mounting Technology: Through Hole; ComponentLink1Description: Manufacturer URL; ComponentLink1URL: http://www.onsemi.com/; ComponentLink2Description: Datasheet; ComponentLink2URL: http://www.onsemi.cn/pub_link/Collateral/MCR100-D.PDF; ComponentLink3Description: Package Specification; ComponentLink3URL: http://www.onsemi.cn/pub_link/Collateral/2N6426-D.PDF
footprint ONSC-TO-92-3-29-11 (TO, 3-Leads, Body Dia 4.7mm, Pitch 1.27mm)
pins: 1 K, 2 G, 3 A

## MCR100-8RL
designator D?
Sensitive Gate Silicon Controlled Rectifier, Reverse Blocking Thyristor, 0.2 mA, 3-Pin TO-92, Tape and Reel; Manufacturer: On Semiconductor; PartNumber: MCR100-8RL; IGT Max (mA): 0.2; IT(RMS) Max (A): 0.8; ITSM Max (A): 10; DatasheetVersion: Rev. 10; PackageVersion: Rev. AM; PackageReference: TO-92-3-29-11_AM_SL; PackageDescription: 3-Pin Transistor Outline, Body 4.825 x 3.685 mm, Pitch 1.27 mm; Supplier 1: Digi-Key; Supplier Part Number 1: MCR100-8RLOSCT-ND; Packing: Tape and Reel; Mounting Technology: Through Hole; ComponentLink1Description: Manufacturer URL; ComponentLink1URL: http://www.onsemi.com/; ComponentLink2Description: Datasheet; ComponentLink2URL: http://www.onsemi.cn/pub_link/Collateral/MCR100-D.PDF; ComponentLink3Description: Package Specification; ComponentLink3URL: http://www.onsemi.cn/pub_link/Collateral/2N6426-D.PDF
footprint ONSC-TO-92-3-29-11 (TO, 3-Leads, Body Dia 4.7mm, Pitch 1.27mm)
pins: 1 K, 2 G, 3 A

## MCR100-8RLG
designator D?
Sensitive Gate Silicon Controlled Rectifier, Reverse Blocking Thyristor, 0.2 mA, 3-Pin TO-92, Pb-Free, Tape and Reel; Manufacturer: On Semiconductor; PartNumber: MCR100-8RLG; IGT Max (mA): 0.2; IT(RMS) Max (A): 0.8; ITSM Max (A): 10; DatasheetVersion: Rev. 10; PackageVersion: Rev. AM; PackageReference: TO-92-3-29-11_AM_SL; PackageDescription: 3-Pin Transistor Outline, Body 4.825 x 3.685 mm, Pitch 1.27 mm; Supplier 1: Digi-Key; Supplier Part Number 1: MCR100-8RLGOSTR-ND; Supplier 2: Digi-Key; Supplier Part Number 2: MCR100-8RLGOSCT-ND; Supplier 3: Farnell; Supplier Part Number 3: 1258395; Supplier 4: Newark; Supplier Part Number 4: 45J0817; Supplier 5: Mouser; Supplier Part Number 5: 863-MCR100-8RLG; Packing: Tape and Reel; RoHS: Pb-Free; Mounting Technology: Through Hole; ComponentLink1Description: Manufacturer URL; ComponentLink1URL: http://www.onsemi.com/; ComponentLink2Description: Datasheet; ComponentLink2URL: http://www.onsemi.cn/pub_link/Collateral/MCR100-D.PDF; ComponentLink3Description: Package Specification; ComponentLink3URL: http://www.onsemi.cn/pub_link/Collateral/2N6426-D.PDF
footprint ONSC-TO-92-3-29-11 (TO, 3-Leads, Body Dia 4.7mm, Pitch 1.27mm)
pins: 1 K, 2 G, 3 A

## MCR106-6
designator D?
Sensitive Gate Silicon Controlled Rectifier, Reverse Blocking Thyristor, 3-Pin TO-225, Bulk Box; Manufacturer: On Semiconductor; PartNumber: MCR106-6; IT(RMS) Max (A): 4; ITSM Max (A): 25; VGT Max (V): 1; DatasheetVersion: Rev. 5; PackageVersion: Rev. Z; PackageReference: TO-225-3-77-09; PackageDescription: 3-Pin Flange Mount, Vertical Straight Lead, Body 7.62 x 2.54 mm, Pitch 2.39 mm; Packing: Bulk Box; Mounting Technology: Through Hole; ComponentLink1Description: Manufacturer URL; ComponentLink1URL: http://www.onsemi.com/; ComponentLink2Description: Datasheet; ComponentLink2URL: http://www.onsemi.cn/pub_link/Collateral/MCR106-D.PDF; ComponentLink3Description: Package Specification; ComponentLink3URL: http://www.onsemi.cn/pub_link/Collateral/C106-D.PDF
footprint ONSC-TO-225-3-77-09_Z (FM, 3-Leads, Body 7.75x2.7mm, Pitch 2.39mm)
pins: 1 K, 2 A, 3 G

## MCR106-6G
designator D?
Sensitive Gate Silicon Controlled Rectifier, Reverse Blocking Thyristor, 3-Pin TO-225, Pb-Free, Bulk Box; Manufacturer: On Semiconductor; PartNumber: MCR106-6G; IT(RMS) Max (A): 4; ITSM Max (A): 25; VGT Max (V): 1; DatasheetVersion: Rev. 5; PackageVersion: Rev. Z; PackageReference: TO-225-3-77-09; PackageDescription: 3-Pin Flange Mount, Vertical Straight Lead, Body 7.62 x 2.54 mm, Pitch 2.39 mm; Supplier 1: Digi-Key; Supplier Part Number 1: MCR106-6GOS-ND; Supplier 2: Farnell; Supplier Part Number 2: 1126423; Supplier 3: Newark; Supplier Part Number 3: 45J0818; Supplier 4: Mouser; Supplier Part Number 4: 863-MCR106-6G; Packing: Bulk Box; RoHS: Pb-Free; Mounting Technology: Through Hole; ComponentLink1Description: Manufacturer URL; ComponentLink1URL: http://www.onsemi.com/; ComponentLink2Description: Datasheet; ComponentLink2URL: http://www.onsemi.cn/pub_link/Collateral/MCR106-D.PDF; ComponentLink3Description: Package Specification; ComponentLink3URL: http://www.onsemi.cn/pub_link/Collateral/C106-D.PDF
footprint ONSC-TO-225-3-77-09_Z (FM, 3-Leads, Body 7.75x2.7mm, Pitch 2.39mm)
pins: 1 K, 2 A, 3 G

## MCR106-8
designator D?
Sensitive Gate Silicon Controlled Rectifier, Reverse Blocking Thyristor, 3-Pin TO-225, Bulk Box; Manufacturer: On Semiconductor; PartNumber: MCR106-8; IT(RMS) Max (A): 4; ITSM Max (A): 25; VGT Max (V): 1; DatasheetVersion: Rev. 5; PackageVersion: Rev. Z; PackageReference: TO-225-3-77-09; PackageDescription: 3-Pin Flange Mount, Vertical Straight Lead, Body 7.62 x 2.54 mm, Pitch 2.39 mm; Packing: Bulk Box; Mounting Technology: Through Hole; ComponentLink1Description: Manufacturer URL; ComponentLink1URL: http://www.onsemi.com/; ComponentLink2Description: Datasheet; ComponentLink2URL: http://www.onsemi.cn/pub_link/Collateral/MCR106-D.PDF; ComponentLink3Description: Package Specification; ComponentLink3URL: http://www.onsemi.cn/pub_link/Collateral/C106-D.PDF
footprint ONSC-TO-225-3-77-09_Z (FM, 3-Leads, Body 7.75x2.7mm, Pitch 2.39mm)
pins: 1 K, 2 A, 3 G

## MCR106-8G
designator D?
Sensitive Gate Silicon Controlled Rectifier, Reverse Blocking Thyristor, 3-Pin TO-225, Pb-Free, Bulk Box; Manufacturer: On Semiconductor; PartNumber: MCR106-8G; IT(RMS) Max (A): 4; ITSM Max (A): 25; VGT Max (V): 1; DatasheetVersion: Rev. 5; PackageVersion: Rev. Z; PackageReference: TO-225-3-77-09; PackageDescription: 3-Pin Flange Mount, Vertical Straight Lead, Body 7.62 x 2.54 mm, Pitch 2.39 mm; Supplier 1: Digi-Key; Supplier Part Number 1: MCR106-8GOS-ND; Supplier 2: Farnell; Supplier Part Number 2: 9557318; Supplier 3: Newark; Supplier Part Number 3: 38K4867; Supplier 4: Newark; Supplier Part Number 4: 26K3696; Supplier 5: Mouser; Supplier Part Number 5: 863-MCR106-8G; Packing: Bulk Box; RoHS: Pb-Free; Mounting Technology: Through Hole; ComponentLink1Description: Manufacturer URL; ComponentLink1URL: http://www.onsemi.com/; ComponentLink2Description: Datasheet; ComponentLink2URL: http://www.onsemi.cn/pub_link/Collateral/MCR106-D.PDF; ComponentLink3Description: Package Specification; ComponentLink3URL: http://www.onsemi.cn/pub_link/Collateral/C106-D.PDF
footprint ONSC-TO-225-3-77-09_Z (FM, 3-Leads, Body 7.75x2.7mm, Pitch 2.39mm)
pins: 1 K, 2 A, 3 G

## MCR218-2
designator D?
Silicon Controlled Rectifier, Reverse Blocking Thyristor, 25 mA, 1.5 V, 3-Pin TO-220, Bulk Box; Manufacturer: On Semiconductor; PartNumber: MCR218-2; IGT Max (mA): 25; IT(RMS) Max (A): 8; ITSM Max (A): 100; VGT Max (V): 1.5; DatasheetVersion: Rev. 4; PackageVersion: Rev. O, 07/2008; PackageReference: TO-220-3-221A-07; PackageDescription: 3-Pin Flange Mount, Vertical Straight Lead, Body 9.97 x 4.445 mm, Pitch 2.54 mm; Packing: Bulk Box; Mounting Technology: Through Hole; ComponentLink1Description: Manufacturer URL; ComponentLink1URL: http://www.onsemi.com/; ComponentLink2Description: Datasheet; ComponentLink2URL: http://www.onsemi.cn/pub_link/Collateral/MCR218-D.PDF; ComponentLink3Description: Package Specification; ComponentLink3URL: http://www.onsemi.com/pub_link/Collateral/221A-07.PDF
footprint ONSC-TO-220-3-221A-07 (FM, 3-Leads, Body 10.3x4.85mm, Pitch 2.54mm)
pins: 1 K, 2 A, 3 G

## MCR218-2G
designator D?
Silicon Controlled Rectifier, Reverse Blocking Thyristor, 25 mA, 1.5 V, 3-Pin TO-220, Pb-Free, Bulk Box; Manufacturer: On Semiconductor; PartNumber: MCR218-2G; IGT Max (mA): 25; IT(RMS) Max (A): 8; ITSM Max (A): 100; VGT Max (V): 1.5; DatasheetVersion: Rev. 4; PackageVersion: Rev. O, 07/2008; PackageReference: TO-220-3-221A-07; PackageDescription: 3-Pin Flange Mount, Vertical Straight Lead, Body 9.97 x 4.445 mm, Pitch 2.54 mm; Supplier 1: Digi-Key; Supplier Part Number 1: MCR218-2G-ND; Supplier 2: Newark; Supplier Part Number 2: 42K0030; Supplier 3: Mouser; Supplier Part Number 3: 863-MCR218-2G; Packing: Bulk Box; RoHS: Pb-Free; Mounting Technology: Through Hole; ComponentLink1Description: Manufacturer URL; ComponentLink1URL: http://www.onsemi.com/; ComponentLink2Description: Datasheet; ComponentLink2URL: http://www.onsemi.cn/pub_link/Collateral/MCR218-D.PDF; ComponentLink3Description: Package Specification; ComponentLink3URL: http://www.onsemi.com/pub_link/Collateral/221A-07.PDF
footprint ONSC-TO-220-3-221A-07 (FM, 3-Leads, Body 10.3x4.85mm, Pitch 2.54mm)
pins: 1 K, 2 A, 3 G

## MCR218-4
designator D?
Silicon Controlled Rectifier, Reverse Blocking Thyristor, 25 mA, 1.5 V, 3-Pin TO-220, Bulk Box; Manufacturer: On Semiconductor; PartNumber: MCR218-4; IGT Max (mA): 25; IT(RMS) Max (A): 8; ITSM Max (A): 100; VGT Max (V): 1.5; DatasheetVersion: Rev. 4; PackageVersion: Rev. O, 07/2008; PackageReference: TO-220-3-221A-07; PackageDescription: 3-Pin Flange Mount, Vertical Straight Lead, Body 9.97 x 4.445 mm, Pitch 2.54 mm; Packing: Bulk Box; Mounting Technology: Through Hole; ComponentLink1Description: Manufacturer URL; ComponentLink1URL: http://www.onsemi.com/; ComponentLink2Description: Datasheet; ComponentLink2URL: http://www.onsemi.com/pub_link/Collateral/MCR218-D.PDF; ComponentLink3Description: Package Specification; ComponentLink3URL: http://www.onsemi.com/pub_link/Collateral/221A-07.PDF
footprint ONSC-TO-220-3-221A-07 (FM, 3-Leads, Body 10.3x4.85mm, Pitch 2.54mm)
pins: 1 K, 2 A, 3 G

## MCR218-4G
designator D?
Silicon Controlled Rectifier, Reverse Blocking Thyristor, 25 mA, 1.5 V, 3-Pin TO-220, Pb-Free, Bulk Box; Manufacturer: On Semiconductor; PartNumber: MCR218-4G; IGT Max (mA): 25; IT(RMS) Max (A): 8; ITSM Max (A): 100; VGT Max (V): 1.5; DatasheetVersion: Rev. 4; PackageVersion: Rev. O, 07/2008; PackageReference: TO-220-3-221A-07; PackageDescription: 3-Pin Flange Mount, Vertical Straight Lead, Body 9.97 x 4.445 mm, Pitch 2.54 mm; Supplier 1: Digi-Key; Supplier Part Number 1: MCR218-4GOS-ND; Supplier 2: Newark; Supplier Part Number 2: 26K3700; Supplier 3: Mouser; Supplier Part Number 3: 863-MCR218-4G; Packing: Bulk Box; RoHS: Pb-Free; Mounting Technology: Through Hole; ComponentLink1Description: Manufacturer URL; ComponentLink1URL: http://www.onsemi.com/; ComponentLink2Description: Datasheet; ComponentLink2URL: http://www.onsemi.com/pub_link/Collateral/MCR218-D.PDF; ComponentLink3Description: Package Specification; ComponentLink3URL: http://www.onsemi.com/pub_link/Collateral/221A-07.PDF
footprint ONSC-TO-220-3-221A-07 (FM, 3-Leads, Body 10.3x4.85mm, Pitch 2.54mm)
pins: 1 K, 2 A, 3 G

## MCR218-6
designator D?
Silicon Controlled Rectifier, Reverse Blocking Thyristor, 25 mA, 1.5 V, 3-Pin TO-220, Bulk Box; Manufacturer: On Semiconductor; PartNumber: MCR218-6; IGT Max (mA): 25; IT(RMS) Max (A): 8; ITSM Max (A): 100; VGT Max (V): 1.5; DatasheetVersion: Rev. 4; PackageVersion: Rev. O, 07/2008; PackageReference: TO-220-3-221A-07; PackageDescription: 3-Pin Flange Mount, Vertical Straight Lead, Body 9.97 x 4.445 mm, Pitch 2.54 mm; Packing: Bulk Box; Mounting Technology: Through Hole; ComponentLink1Description: Manufacturer URL; ComponentLink1URL: http://www.onsemi.com/; ComponentLink2Description: Datasheet; ComponentLink2URL: http://www.onsemi.com/pub_link/Collateral/MCR218-D.PDF; ComponentLink3Description: Package Specification; ComponentLink3URL: http://www.onsemi.com/pub_link/Collateral/221A-07.PDF
footprint ONSC-TO-220-3-221A-07 (FM, 3-Leads, Body 10.3x4.85mm, Pitch 2.54mm)
pins: 1 K, 2 A, 3 G